# Altium footprint library PMP4435.PcbLib: 16 footprints
Each footprint in its own frame and in the unit in brackets; x right, y up, seen from the top. Pads: shape width x height; smd on the part's side, far side on the other; paste and mask are expansions set on the pad; w line width, h text height; cw(c..) or ccw(c..) is an arc to the next point about the centre after c.
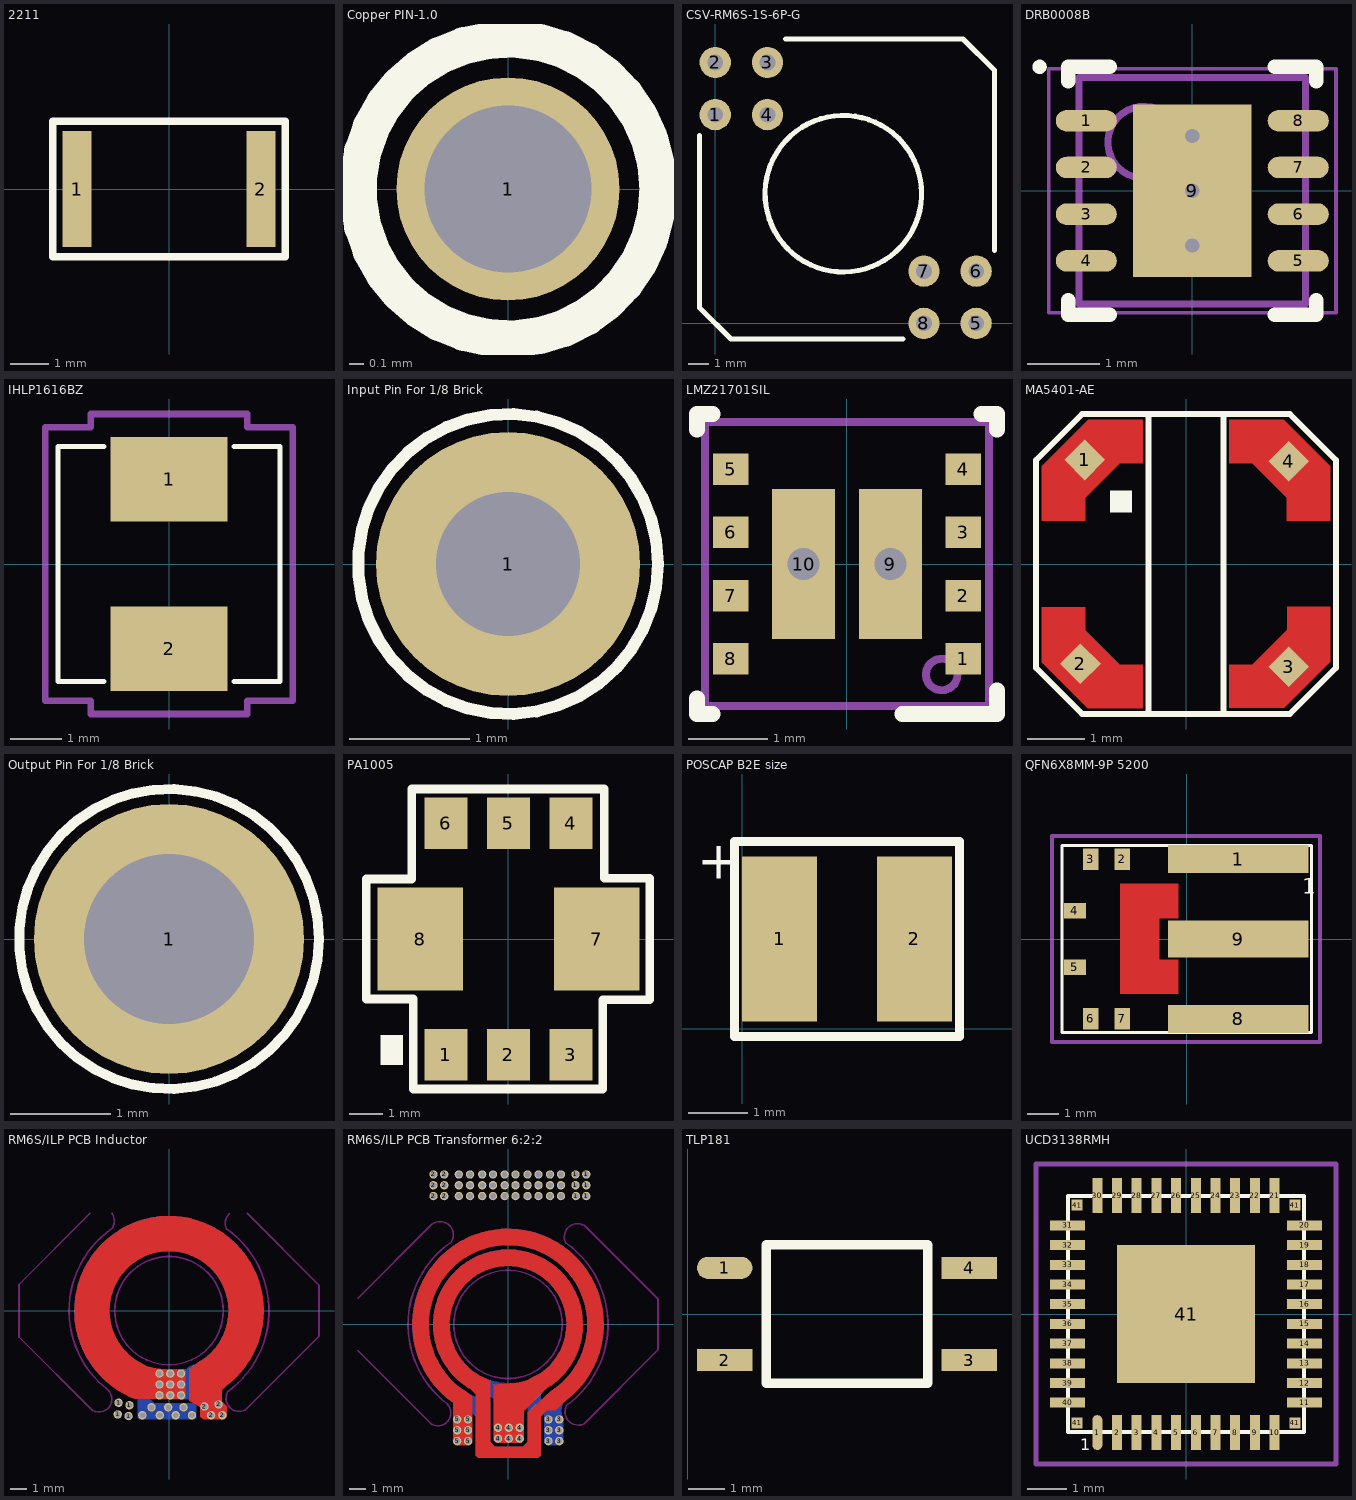
[diagram p0: the footprints below, top view; thin cyan lines are the x and y axes]

## 2211 [mil] "2211size : UL1414 Class X1/Y2 recognized type"
height 60
pads (2):
  rect 30x120 smd: 1(-95,0) 2(95,0)
Top Overlay:
  lines w7.87: -120,-70 120,-70 120,70 -120,70 -120,17.8 -120,-70

## Copper PIN-1.0 [mil] "Copper PINs for input and output"
height 570
pads (1):
  round 60 hole 45: 1(0,0)
Top Overlay:
  circle w10: c0,0 r40.31

## CSV-RM6S-1S-6P-G [mil] "RM6S Flyback Transformer"
height 490
pads (8):
  round 60 hole 30: 1(0,400) 2(0,500) 3(100,500) 4(100,400) 5(500,0) 6(500,100) 7(400,100) 8(400,0)
Top Overlay:
  lines w10: -30,360 -30,30 30,-30 360,-30 ; 135,545 475,545 535,485 535,140 ; 395,260 ccw(c245.44,248.49) 395.23,256.38

## DRB0008B [mm] "SON, 8-Leads, Body 3x3mm, Pitch 0.65mm, Thermal Pad 2.4x1.65mm, TI Recommended"
height 1
pads (9):
  oval 0.85x0.3 smd paste-0.025 mask+0.07: 1(-1.475,0.975) 2(-1.475,0.325) 3(-1.475,-0.325) 4(-1.475,-0.975) 5(1.475,-0.975) 6(1.475,-0.325) 7(1.475,0.325) 8(1.475,0.975)
  rect 1.65x2.4 smd paste-0.825 mask+0.07: 9(0,0)
via 0,0 diameter 0.5 hole 0.2
via 0,0.762 diameter 0.5 hole 0.2
via 0,-0.762 diameter 0.5 hole 0.2
Top Overlay:
  circle w0.1: c-2.125,1.725 r0.05
  lines w0.2: -1.725,-1.525 -1.725,-1.725 -1.15,-1.725 ; -1.725,1.525 -1.725,1.725 -1.15,1.725 ; 1.15,-1.725 1.725,-1.725 1.725,-1.525 ; 1.15,1.725 1.725,1.725 1.725,1.525
Top Paste:
  rectangle: -0.775,0.125 -0.125,1.125
  region: 0.775,1.125 0.125,1.125 0.125,0.125 0.775,0.125
  region: 0.775,-0.125 0.125,-0.125 0.125,-1.125 0.775,-1.125
  rectangle: -0.775,-1.125 -0.125,-0.125
Mechanical 5:
  circle w0.1: c-0.675,0.675 r0.5
  lines w0.1: -1.575,-1.575 -1.575,1.575 1.575,1.575 1.575,-1.575 -1.575,-1.575
  text ".Designator" at -1.397,-0.889 h0.76
Mechanical 15:
  lines w0.05: -2,-1.7 -2,1.7 2,1.7 2,-1.7 -2,-1.7
  lines w0.1: -0.5,0 0.5,0 ; 0,-0.5 0,0.5
3D body: height 1, standoff 0, extent -1.575,-1.575 1.575,1.575

## IHLP1616BZ [mil] "IHLP1616BZERR10M01, 100nH, 5mOHM, 35A"
height 78.74
pads (2):
  rect 90x65 smd: 1(0,65) 2(0,-65)
Top Overlay:
  lines w4: -50,-90 -85,-90 -85,90 -50,90 ; 50,-90 85,-90 85,90 50,90
Mechanical 5:
  lines w5: -95,-105 -60,-105 -60,-115 60,-115 60,-105 95,-105 95,105 60,105 60,115 -60,115 -60,105 -95,105 -95,-105
  text ".Designator" at -20,73 h40

## Input Pin For 1/8 Brick [mm] "Input Pin For 1/8 Brick, D1.0mm*D2.0mm*L11.6mm"
height 11.6
pads (1):
  round 2.2 hole 1.2: 1(0,0)
Top Overlay:
  circle w0.1: c0,0 r1.25

## LMZ21701SIL [mm]
height 1.016
pads (10):
  rect 0.45x0.4 smd mask+0.07: 1(1.475,-1.2) 2(1.475,-0.4) 3(1.475,0.4) 4(1.475,1.2) 5(-1.475,1.2) 6(-1.475,0.4) 7(-1.475,-0.4) 8(-1.475,-1.2)
  rect 0.8x1.9 smd paste-0.5 mask+0.07: 9(0.55,0) 10(-0.55,0)
via 0.55,0 diameter 0.457 hole 0.406
via -0.55,0 diameter 0.457 hole 0.406
Top Overlay:
  lines w0.2: -1.9,-1.7 -1.9,-1.9 -1.7,-1.9 ; -1.9,1.7 -1.9,1.9 -1.7,1.9 ; 0.7,-1.9 1.9,-1.9 1.9,-1.6 ; 1.7,1.9 1.9,1.9 1.9,1.7
Top Paste:
  region: 0.93,0.95 0.17,0.95 0.17,0.1 0.93,0.1
  region: -0.17,-0.1 -0.93,-0.1 -0.93,-0.95 -0.17,-0.95
  region: -0.17,0.95 -0.93,0.95 -0.93,0.1 -0.17,0.1
  region: 0.925,-0.1 0.165,-0.1 0.165,-0.95 0.925,-0.95
Mechanical 5:
  circle w0.1: c1.2,-1.4 r0.2
  lines w0.1: -1.8,-1.8 1.8,-1.8 1.8,1.8 -1.8,1.8 -1.8,-1.8
  text ".Designator" at 1.4,0.4 h0.51
3D body: height 0.47, standoff 0.2, extent 0.997,-1.603 1.403,-1.197
3D body: height 1.66, standoff 0, extent -1.75,-1.75 1.75,1.75

## MA5401-AE [mil] "SMT Flyback / Buck Transformer"
height 118.11
pads (4):
  rect 19.68x19.68 smd rot 45: 1(-69,71) 2(-72,-68) 3(70,-70) 4(70,70)
Top Layer:
  region: -29.53,-68.9 -29.53,-98.43 -66.93,-98.43 -98.43,-66.93 -98.43,-29.53 -68.9,-29.53 -68.9,-45.28 -45.28,-68.9
  region: 69,-29.25 98.53,-29.25 98.53,-66.65 67.03,-98.15 29.63,-98.15 29.63,-68.62 45.38,-68.62 69,-45
  region: 29.44,68.81 29.44,98.34 66.84,98.34 98.34,66.84 98.34,29.44 68.81,29.44 68.81,45.19 45.19,68.81
  region: -68.81,29.44 -98.34,29.44 -98.34,66.84 -66.84,98.34 -29.44,98.34 -29.44,68.81 -45.19,68.81 -68.81,45.19
Top Overlay:
  rectangle: -52,35 -37,50
  lines w3.94: -25.59,-102.36 -25.59,102.36 ; 25.59,-102.36 25.59,102.36
  lines w4: -102.36,-70.87 -70.87,-102.36 70.87,-102.36 102.36,-70.87 102.36,70.87 70.87,102.36 -70.87,102.36 -102.36,70.87 -102.36,-70.87

## Output Pin For 1/8 Brick [mm] "Output Pin For 1/8 Brick, D1.5mm*D2.5mm*L11.6mm"
height 11.6
pads (1):
  round 2.7 hole 1.7: 1(0,0)
Top Overlay:
  circle w0.1: c0,0 r1.5

## PA1005 [mil] "SMT Current Sense Transformers, PA1005 Series, www.pulseelectronics.com"
height 220
pads (8):
  rect 50x60 smd: 1(-73,-135) 2(0,-135) 3(73,-135) 4(73,135) 5(0,135) 6(-73,135)
  rect 100x120 smd: 7(103,0) 8(-103,0)
Top Overlay:
  rectangle: -149,-147 -123,-112
  lines w10: -166,-70 -166,70 -113,70 -113,175 112,175 112,71 165,71 165,-71 110,-71 110,-175 -111,-175 -111,-70 -166,-70

## POSCAP B2E size [mil] "B2E size (3.5 x 2.8 x 1.9mm)"
height 80
pads (2):
  rect 50x110 smd: 1(25,60) 2(115,60)
Top Overlay:
  lines w6: -5,-5 145,-5 145,125 -5,125 -5,-5
  text "+" at -30,100 h25

## QFN6X8MM-9P 5200 [mm] "LM5200 QFN6*8mm PCB Package"
height 2.54
pads (9):
  rect 4.5x0.9 smd mask+0.03: 1(1.65,2.56) 8(1.65,-2.56)
  rect 0.5x0.7 smd mask+0.03: 2(-2.075,2.56) 3(-3.075,2.56) 6(-3.075,-2.56) 7(-2.075,-2.56)
  rect 0.7x0.5 smd mask+0.03: 4(-3.585,0.9) 5(-3.585,-0.9)
  rect 4.5x1.2 smd mask+0.03: 9(1.65,0)
Top Layer:
  pour cut-out: -2.133,1.778 -2.133,-1.753 -0.279,-1.753 -0.279,-0.66 -0.889,-0.66 -0.889,0.66 -0.279,0.66 -0.279,1.778
Top Overlay:
  lines w0.102: -4,-3 -4,3 4,3 4,-3 -4,-3
  text "1" at 3.708,1.448 h0.51
Mechanical 5:
  lines w0.127: -4.325,-3.3 -4.325,3.3 4.275,3.3 4.275,-3.3 -4.325,-3.3
  text ".Designator" at -1.879,-0.508 h1.02
  text "*" at 3.023,2.159 h0.76

## RM6S/ILP PCB Inductor [mil] "RM6S/ILP PCB Planar Inductor, 3 Turns"
height 100
pads (24):
  round 20 hole 14 paste+0 mask+0: 1(-123,-249) 1(-121,-221) 1(-97,-253) 1(-95,-227) 2(85,-230) 2(101,-251) 2(119,-225) 2(128,-251) ""(-64,-251) ""(-42,-232) ""(-23,-203) ""(-23,-177) ""(-23,-151) ""(-22,-251) ""(-2,-232) ""(3,-203) ""(3,-177) ""(3,-151) ""(16,-251) ""(29,-203) ""(29,-177) ""(29,-151) ""(35,-232) ""(55,-251)
Top Layer:
  region: -53,-133 -32,-138 -9,-141 34.64,-141.64 39,-146 39,-208 34,-213 -80,-211 -89,-204 -89,-176
  region: 72.14,-122.78 49,-140.78 49,-215.85 75,-231.85 75,-254 82,-261 133,-261 139,-255 139,-229 127,-217 127,-191 134,-184 134,-145 125,-136
  lines w85: -75.5,-168.89 cw(c0,0) 94.45,-159.07
Mid-Layer 1:
  region: -27,-140 -33,-146 -33,-202 -22,-213 66,-213 78,-201 78,-172 46,-140
  region: -75.34,-121.3 -45,-140.72 -45,-212 -35,-222 59,-222 65,-228 65,-258 62,-261 -72,-261 -75,-258 -75,-213.11 -97,-205 -116.06,-194.99 -117,-162
  lines w85: -92.5,-160.21 cw(c0,0) 70.59,-171
Mid-Layer 2:
  region: -65,-128 -42,-151 -42,-202 -45,-205 -71,-205 -83,-217 -83,-259 -87,-263 -132,-263 -136,-259 -136,-231 -131,-226 -131,-187 -135,-183 -135,-168 -95,-128
  region: 72,-123 48,-147 48,-210 36,-222 -71,-222 -74,-225 -74,-256 -69,-261 60,-261 67,-254 67,-218.19 135.52,-179.65 142,-174 142,-154 111,-123
  lines w85: -92.5,-160.21 cw(c0,0) 92.5,-160.21
Mid-Layer 3:
  region: 72.14,-122.78 49,-140.78 49,-215.85 75,-231.85 75,-254 82,-261 133,-261 139,-255 139,-229 127,-217 127,-191 134,-184 134,-145 125,-136
  region: -53,-133 -32,-138 -9,-141 34.64,-141.64 39,-146 39,-208 34,-213 -80,-211 -89,-204 -89,-176
  lines w85: -75.5,-168.89 cw(c0,0) 94.45,-159.07
Mid-Layer 4:
  region: -75.34,-121.3 -45,-140.72 -45,-212 -35,-222 59,-222 65,-228 65,-258 62,-261 -72,-261 -75,-258 -75,-213.11 -97,-205 -116.06,-194.99 -117,-162
  region: -27,-140 -33,-146 -33,-202 -22,-213 66,-213 78,-201 78,-172 46,-140
  lines w85: -92.5,-160.21 cw(c0,0) 70.59,-171
Mid-Layer 5:
  region: 72,-123 48,-147 48,-210 36,-222 -71,-222 -74,-225 -74,-256 -69,-261 60,-261 67,-254 67,-218.19 135.52,-179.65 142,-174 142,-154 111,-123
  region: -65,-128 -42,-151 -42,-202 -45,-205 -71,-205 -83,-217 -83,-259 -87,-263 -132,-263 -136,-259 -136,-231 -131,-226 -131,-187 -135,-183 -135,-168 -95,-128
  lines w85: -92.5,-160.21 cw(c0,0) 92.5,-160.21
Mid-Layer 6:
  region: 72.14,-122.78 49,-140.78 49,-215.85 75,-231.85 75,-254 82,-261 133,-261 139,-255 139,-229 127,-217 127,-191 134,-184 134,-145 125,-136
  region: -53,-133 -32,-138 -9,-141 34.64,-141.64 39,-146 39,-208 34,-213 -80,-211 -89,-204 -89,-176
  lines w85: -75.5,-168.89 cw(c0,0) 94.45,-159.07
Mid-Layer 7:
  region: -75.34,-121.3 -45,-140.72 -45,-212 -35,-222 59,-222 65,-228 65,-258 62,-261 -72,-261 -75,-258 -75,-213.11 -97,-205 -116.06,-194.99 -117,-162
  region: -27,-140 -33,-146 -33,-202 -22,-213 66,-213 78,-201 78,-172 46,-140
  lines w85: -92.5,-160.21 cw(c0,0) 70.59,-171
Mid-Layer 8:
  region: 72,-123 48,-147 48,-210 36,-222 -71,-222 -74,-225 -74,-256 -69,-261 60,-261 67,-254 67,-218.19 135.52,-179.65 142,-174 142,-154 111,-123
  region: -65,-128 -42,-151 -42,-202 -45,-205 -71,-205 -83,-217 -83,-259 -87,-263 -132,-263 -136,-259 -136,-231 -131,-226 -131,-187 -135,-183 -135,-168 -95,-128
  lines w85: -92.5,-160.21 cw(c0,0) 92.5,-160.21
Mid-Layer 9:
  region: -53,-133 -32,-138 -9,-141 34.64,-141.64 39,-146 39,-208 34,-213 -80,-211 -89,-204 -89,-176
  region: 72.14,-122.78 49,-140.78 49,-215.85 75,-231.85 75,-254 82,-261 133,-261 139,-255 139,-229 127,-217 127,-191 134,-184 134,-145 125,-136
  lines w85: -75.5,-168.89 cw(c0,0) 94.45,-159.07
Mid-Layer 10:
  region: -27,-140 -33,-146 -33,-202 -22,-213 66,-213 78,-201 78,-172 46,-140
  region: -75.34,-121.3 -45,-140.72 -45,-212 -35,-222 59,-222 65,-228 65,-258 62,-261 -72,-261 -75,-258 -75,-213.11 -97,-205 -116.06,-194.99 -117,-162
  lines w85: -92.5,-160.21 cw(c0,0) 70.59,-171
Mid-Layer 11:
  region: 72,-123 48,-147 48,-210 36,-222 -71,-222 -74,-225 -74,-256 -69,-261 60,-261 67,-254 67,-218.19 135.52,-179.65 142,-174 142,-154 111,-123
  region: -65,-128 -42,-151 -42,-202 -45,-205 -71,-205 -83,-217 -83,-259 -87,-263 -132,-263 -136,-259 -136,-231 -131,-226 -131,-187 -135,-183 -135,-168 -95,-128
  lines w85: -92.5,-160.21 cw(c0,0) 92.5,-160.21
Mid-Layer 12:
  region: 72.14,-122.78 49,-140.78 49,-215.85 75,-231.85 75,-254 82,-261 133,-261 139,-255 139,-229 127,-217 127,-191 134,-184 134,-145 125,-136
  region: -53,-133 -32,-138 -9,-141 34.64,-141.64 39,-146 39,-208 34,-213 -80,-211 -89,-204 -89,-176
  lines w85: -75.5,-168.89 cw(c0,0) 94.45,-159.07
Mid-Layer 13:
  region: -27,-140 -33,-146 -33,-202 -22,-213 66,-213 78,-201 78,-172 46,-140
  region: -75.34,-121.3 -45,-140.72 -45,-212 -35,-222 59,-222 65,-228 65,-258 62,-261 -72,-261 -75,-258 -75,-213.11 -97,-205 -116.06,-194.99 -117,-162
  lines w85: -92.5,-160.21 cw(c0,0) 70.59,-171
Mid-Layer 14:
  region: 72,-123 48,-147 48,-210 36,-222 -71,-222 -74,-225 -74,-256 -69,-261 60,-261 67,-254 67,-218.19 135.52,-179.65 142,-174 142,-154 111,-123
  region: -65,-128 -42,-151 -42,-202 -45,-205 -71,-205 -83,-217 -83,-259 -87,-263 -132,-263 -136,-259 -136,-231 -131,-226 -131,-187 -135,-183 -135,-168 -95,-128
  lines w85: -92.5,-160.21 cw(c0,0) 92.5,-160.21
Mid-Layer 15:
  region: 72.14,-122.78 49,-140.78 49,-215.85 75,-231.85 75,-254 82,-261 133,-261 139,-255 139,-229 127,-217 127,-191 134,-184 134,-145 125,-136
  region: -53,-133 -32,-138 -9,-141 34.64,-141.64 39,-146 39,-208 34,-213 -80,-211 -89,-204 -89,-176
  lines w85: -75.5,-168.89 cw(c0,0) 94.45,-159.07
Mid-Layer 16:
  region: -27,-140 -33,-146 -33,-202 -22,-213 66,-213 78,-201 78,-172 46,-140
  region: -75.34,-121.3 -45,-140.72 -45,-212 -35,-222 59,-222 65,-228 65,-258 62,-261 -72,-261 -75,-258 -75,-213.11 -97,-205 -116.06,-194.99 -117,-162
  lines w85: -92.5,-160.21 cw(c0,0) 70.59,-171
Mid-Layer 17:
  region: 72,-123 48,-147 48,-210 36,-222 -71,-222 -74,-225 -74,-256 -69,-261 60,-261 67,-254 67,-218.19 135.52,-179.65 142,-174 142,-154 111,-123
  region: -65,-128 -42,-151 -42,-202 -45,-205 -71,-205 -83,-217 -83,-259 -87,-263 -132,-263 -136,-259 -136,-231 -131,-226 -131,-187 -135,-183 -135,-168 -95,-128
  lines w85: -92.5,-160.21 cw(c0,0) 92.5,-160.21
Mid-Layer 18:
  region: 72.14,-122.78 49,-140.78 49,-215.85 75,-231.85 75,-254 82,-261 133,-261 139,-255 139,-229 127,-217 127,-191 134,-184 134,-145 125,-136
  region: -53,-133 -32,-138 -9,-141 34.64,-141.64 39,-146 39,-208 34,-213 -80,-211 -89,-204 -89,-176
  lines w85: -75.5,-168.89 cw(c0,0) 94.45,-159.07
Bottom Layer:
  region: -27,-140 -33,-146 -33,-202 -22,-213 66,-213 78,-201 78,-172 46,-140
  region: -75.34,-121.3 -45,-140.72 -45,-212 -35,-222 59,-222 65,-228 65,-258 62,-261 -72,-261 -75,-258 -75,-213.11 -97,-205 -116.06,-194.99 -117,-162
  lines w85: -92.5,-160.21 cw(c0,0) 70.59,-171
Keep-Out Layer:
  circle w4: c0,0 r130
  lines w4: -360,-63 -182.8,-240.2 ; -360,-61 -360,61 -360,63 -189.5,233.5 ; -182.26,-239.82 ccw(c-168.02,-212.43) -145.42,-191.39 ; -145.2,-191.1 cw(c0,0) -136.44,197.45 ; -136.89,233.49 cw(c-163.04,215.03) -136.04,197.85 ; 138.17,196.18 cw(c167.11,209.83) 145.02,232.98 ; 138.22,196.2 cw(c0,0) 139.5,-195.3 ; 140,-196 ccw(c168.87,-209.79) 183.11,-238.45 ; 182.8,-238.2 360,-61 360,61 ; 187.5,233.5 359.2,61.8

## RM6S/ILP PCB Transformer 6:2:2 [mil] "RM6S/ILP PCB Planar Full Bridge Transformer, 6:2:2"
height 100
pads (60):
  round 20 hole 14 paste+0 mask+0: 1(162,334) 1(162,360) 1(163,308) 1(188,308) 1(188,334) 1(188,360) 2(-179,308) 2(-179,334) 2(-179,360) 2(-153,308) 2(-153,334) 2(-153,360) 3(97,-280) 3(97,-254) 3(97,-228) 3(123,-280) 3(123,-254) 3(123,-228) 4(-24,-274) 4(-24,-248) 4(2,-274) 4(2,-248) 4(28,-274) 4(28,-248) 5(-122,-280) 5(-122,-254) 5(-122,-228) 5(-96,-280) 5(-96,-254) 5(-96,-228) ""(-118,308) ""(-118,334) ""(-118,360) ""(-91,308) ""(-91,334) ""(-91,360) ""(-62,308) ""(-62,334) ""(-62,360) ""(-36,308) ""(-36,334) ""(-36,360) ""(-8,308) ""(-8,334) ""(-8,360) ""(18,308) ""(18,334) ""(18,360) ""(47,308) ""(47,334) ""(47,360) ""(73,308) ""(73,334) ""(73,360) ""(101,308) ""(101,334) ""(101,360) ""(127,308) ""(127,334) ""(127,360)
Top Layer:
  region: -110.98,-154.16 -132,-171.5 -132,-284 -126,-290 -92,-290 -86,-284 -86,-172
  region: -76,-121 -72,-125 -62,-126 -43,-135 -43,-282 -32,-293 35,-293 47,-281 47,-211.25 103,-160 121,-155 135,-169 135,-186 115,-206 93,-206 78,-221 78,-314 72,-320 -72,-320 -77,-315 -77,-168 -91,-154 -91,-133 -85,-127
  region: 61,-126 60,-126 48,-133 32.71,-138.1 7,-142 -25.86,-143.86 -34,-145 -34,-278 -28,-284 32,-284 38,-278 38,-208 91,-155 91,-139
  lines w40: -109.04,-179.47 cw(c0,0) 116.03,-175.04 ; -74.64,-141.52 cw(c0,0) 71.55,-143.11
Mid-Layer 1:
  region: 94,106 81,119 78,119 68,129 68,220.52 150,303.22 150,367.75 153.6,370 197,370 200,367 200,279 170,249 147,249 129,231 129,192 141,180 141,137
  region: -9,142 10,142 12,140 57,140 59,142 59,224 137,302 137,364 131,370 96,370 91,365 91,294.89 71,286 -18.13,228.87 -19,228 -32,228 -42,218 -42,182 -39,179
  lines w88: 14.04,184.47 ccw(c0,0) 114.47,145.33
Mid-Layer 2:
  region: 103.3,-159.7 87,-176 87,-284 93,-290 127,-290 133,-284 133,-227 130,-220 128,-210 129,-198 133,-187.29
  region: -93,-205 -77,-221 -77,-315 -72,-320 73,-320 78,-315 78,-168 93,-153 67,-127 60,-127 47,-140 47,-283 37,-293 -32,-293 -43,-282 -43,-186 -48,-183 -61,-180 -69.96,-181
  region: -55,-159 -34,-180 -34,-278 -28,-284 32,-284 38,-278 38,-148 35.21,-142.41 -31.29,-139.09
  lines w40: -68.8,-198.41 cw(c0,0) 116.03,-175.04 ; -18.11,-158.97 cw(c0,0) 71.55,-143.11
Mid-Layer 3:
  region: 61,-126 60,-126 48,-133 32.71,-138.1 7,-142 -25.86,-143.86 -34,-145 -34,-278 -28,-284 32,-284 38,-278 38,-208 91,-155 91,-139
  region: -110.98,-154.16 -132,-171.5 -132,-284 -126,-290 -92,-290 -86,-284 -86,-172
  region: -76,-121 -72,-125 -62,-126 -43,-135 -43,-282 -32,-293 35,-293 47,-281 47,-211.25 103,-160 121,-155 135,-169 135,-186 115,-206 93,-206 78,-221 78,-314 72,-320 -72,-320 -77,-315 -77,-168 -91,-154 -91,-133 -85,-127
  lines w40: -109.04,-179.47 cw(c0,0) 116.03,-175.04 ; -74.64,-141.52 cw(c0,0) 71.55,-143.11
Mid-Layer 4:
  region: 96,370 131,370 138,363 138,240 129,231 129,191 134,186 134,126 70,126 60,136 60,193 91,224 91,365
  region: 37,364 43,370 78,370 83,365 83,229 49,195 49,147 42,140 7,140 -17,164 -17,220 37,274
  lines w88: 4,184.96 ccw(c0,0) 107.44,150.61
Mid-Layer 5:
  region: 61,-126 60,-126 48,-133 32.71,-138.1 7,-142 -25.86,-143.86 -34,-145 -34,-278 -28,-284 32,-284 38,-278 38,-208 91,-155 91,-139
  region: -110.98,-154.16 -132,-171.5 -132,-284 -126,-290 -92,-290 -86,-284 -86,-172
  region: -76,-121 -72,-125 -62,-126 -43,-135 -43,-282 -32,-293 35,-293 47,-281 47,-211.25 103,-160 121,-155 135,-169 135,-186 115,-206 93,-206 78,-221 78,-314 72,-320 -72,-320 -77,-315 -77,-168 -91,-154 -91,-133 -85,-127
  lines w40: -109.04,-179.47 cw(c0,0) 116.03,-175.04 ; -74.64,-141.52 cw(c0,0) 71.55,-143.11
Mid-Layer 6:
  region: 103.3,-159.7 87,-176 87,-284 93,-290 127,-290 133,-284 133,-227 130,-220 128,-210 129,-198 133,-187.29
  region: -93,-205 -77,-221 -77,-315 -72,-320 73,-320 78,-315 78,-168 93,-153 67,-127 60,-127 47,-140 47,-283 37,-293 -32,-293 -43,-282 -43,-186 -48,-183 -61,-180 -69.96,-181
  region: -55,-159 -34,-180 -34,-278 -28,-284 32,-284 38,-278 38,-148 35.21,-142.41 -31.29,-139.09
  lines w40: -68.8,-198.41 cw(c0,0) 116.03,-175.04 ; -18.11,-158.97 cw(c0,0) 71.55,-143.11
Mid-Layer 7:
  region: 37,364 43,370 78,370 83,365 83,233 131,185 80,134 47,134 33,148 33,204 37,208
  region: -18,364 -12,370 22,370 28,364 28,210 24,206 24,147 16,139 -17,139 -50,172 -50,183 -57,190 -57,218 -18,257
  lines w88: -23.95,182.57 ccw(c-1,-1) 78.54,166.03
Mid-Layer 8:
  region: 61,-126 60,-126 48,-133 32.71,-138.1 7,-142 -25.86,-143.86 -34,-145 -34,-278 -28,-284 32,-284 38,-278 38,-208 91,-155 91,-139
  region: -76,-121 -72,-125 -62,-126 -43,-135 -43,-282 -32,-293 35,-293 47,-281 47,-211.25 103,-160 121,-155 135,-169 135,-186 115,-206 93,-206 78,-221 78,-314 72,-320 -72,-320 -77,-315 -77,-168 -91,-154 -91,-133 -85,-127
  region: -110.98,-154.16 -132,-171.5 -132,-284 -126,-290 -92,-290 -86,-284 -86,-172
  lines w40: -109.04,-179.47 cw(c0,0) 116.03,-175.04 ; -74.64,-141.52 cw(c0,0) 71.55,-143.11
Mid-Layer 9:
  region: 103.3,-159.7 87,-176 87,-284 93,-290 127,-290 133,-284 133,-227 130,-220 128,-210 129,-198 133,-187.29
  region: -93,-205 -77,-221 -77,-315 -72,-320 73,-320 78,-315 78,-168 93,-153 67,-127 60,-127 47,-140 47,-283 37,-293 -32,-293 -43,-282 -43,-186 -48,-183 -61,-180 -69.96,-181
  region: -55,-159 -34,-180 -34,-278 -28,-284 32,-284 38,-278 38,-148 35.21,-142.41 -31.29,-139.09
  lines w40: -68.8,-198.41 cw(c0,0) 116.03,-175.04 ; -18.11,-158.97 cw(c0,0) 71.55,-143.11
Mid-Layer 10:
  region: 61,-126 60,-126 48,-133 32.71,-138.1 7,-142 -25.86,-143.86 -34,-145 -34,-278 -28,-284 32,-284 38,-278 38,-208 91,-155 91,-139
  region: -76,-121 -72,-125 -62,-126 -43,-135 -43,-282 -32,-293 35,-293 47,-281 47,-211.25 103,-160 121,-155 135,-169 135,-186 115,-206 93,-206 78,-221 78,-314 72,-320 -72,-320 -77,-315 -77,-168 -91,-154 -91,-133 -85,-127
  region: -110.98,-154.16 -132,-171.5 -132,-284 -126,-290 -92,-290 -86,-284 -86,-172
  lines w40: -109.04,-179.47 cw(c0,0) 116.03,-175.04 ; -74.64,-141.52 cw(c0,0) 71.55,-143.11
Mid-Layer 11:
  region: -12,370 22,370 28,364 28,283 113.5,197.5 51,135 7,135 0,142 0,241 -18,259 -18,364.29
  region: -32,370 -26,364 -26,256 -7,237 -7,143 -17,135 -67.4,131.4 -113.5,177.5 -72,219 -72,364 -66,370
  lines w88: -53.98,176.95 ccw(c0,0) 50.03,178.11
Mid-Layer 12:
  region: -55,-159 -34,-180 -34,-278 -28,-284 32,-284 38,-278 38,-148 35.21,-142.41 -31.29,-139.09
  region: -93,-205 -77,-221 -77,-315 -72,-320 73,-320 78,-315 78,-168 93,-153 67,-127 60,-127 47,-140 47,-283 37,-293 -32,-293 -43,-282 -43,-186 -48,-183 -61,-180 -69.96,-181
  region: 103.3,-159.7 87,-176 87,-284 93,-290 127,-290 133,-284 133,-227 130,-220 128,-210 129,-198 133,-187.29
  lines w40: -68.8,-198.41 cw(c0,0) 116.03,-175.04 ; -18.11,-158.97 cw(c0,0) 71.55,-143.11
Mid-Layer 13:
  region: 61,-126 60,-126 48,-133 32.71,-138.1 7,-142 -25.86,-143.86 -34,-145 -34,-278 -28,-284 32,-284 38,-278 38,-208 91,-155 91,-139
  region: -76,-121 -72,-125 -62,-126 -43,-135 -43,-282 -32,-293 35,-293 47,-281 47,-211.25 103,-160 121,-155 135,-169 135,-186 115,-206 93,-206 78,-221 78,-314 72,-320 -72,-320 -77,-315 -77,-168 -91,-154 -91,-133 -85,-127
  region: -110.98,-154.16 -132,-171.5 -132,-284 -126,-290 -92,-290 -86,-284 -86,-172
  lines w40: -109.04,-179.47 cw(c0,0) 116.03,-175.04 ; -74.64,-141.52 cw(c0,0) 71.55,-143.11
Mid-Layer 14:
  region: 103.3,-159.7 87,-176 87,-284 93,-290 127,-290 133,-284 133,-227 130,-220 128,-210 129,-198 133,-187.29
  region: -93,-205 -77,-221 -77,-315 -72,-320 73,-320 78,-315 78,-168 93,-153 67,-127 60,-127 47,-140 47,-283 37,-293 -32,-293 -43,-282 -43,-186 -48,-183 -61,-180 -69.96,-181
  region: -55,-159 -34,-180 -34,-278 -28,-284 32,-284 38,-278 38,-148 35.21,-142.41 -31.29,-139.09
  lines w40: -68.8,-198.41 cw(c0,0) 116.03,-175.04 ; -18.11,-158.97 cw(c0,0) 71.55,-143.11
Mid-Layer 15:
  region: -72,364 -66,370 -32,370 -26,364 -26,275 47,202 -14,141 -41,141 -53,153 -53,193 -72,212
  region: -128,365 -123,370 -87,370 -81,364 -81,208 -62,189 -62,133 -81,114 -131,164 -131,189 -125,195 -125,238 -128,241
  lines w88: -108.1,150.13 ccw(c0,0) -5,184.93
Mid-Layer 16:
  region: 61,-126 60,-126 48,-133 32.71,-138.1 7,-142 -25.86,-143.86 -34,-145 -34,-278 -28,-284 32,-284 38,-278 38,-208 91,-155 91,-139
  region: -76,-121 -72,-125 -62,-126 -43,-135 -43,-282 -32,-293 35,-293 47,-281 47,-211.25 103,-160 121,-155 135,-169 135,-186 115,-206 93,-206 78,-221 78,-314 72,-320 -72,-320 -77,-315 -77,-168 -91,-154 -91,-133 -85,-127
  region: -110.98,-154.16 -132,-171.5 -132,-284 -126,-290 -92,-290 -86,-284 -86,-172
  lines w40: -109.04,-179.47 cw(c0,0) 116.03,-175.04 ; -74.64,-141.52 cw(c0,0) 71.55,-143.11
Mid-Layer 17:
  region: 103.3,-159.7 87,-176 87,-284 93,-290 127,-290 133,-284 133,-227 130,-220 128,-210 129,-198 133,-187.29
  region: -93,-205 -77,-221 -77,-315 -72,-320 73,-320 78,-315 78,-168 93,-153 67,-127 60,-127 47,-140 47,-283 37,-293 -32,-293 -43,-282 -43,-186 -48,-183 -61,-180 -69.96,-181
  region: -55,-159 -34,-180 -34,-278 -28,-284 32,-284 38,-278 38,-148 35.21,-142.41 -31.29,-139.09
  lines w40: -68.8,-198.41 cw(c0,0) 116.03,-175.04 ; -18.11,-158.97 cw(c0,0) 71.55,-143.11
Mid-Layer 18:
  region: -128,302.96 -128,364 -122,370 -87,370 -81,364 -81,298 -56,285 -31,280 14,228 15,228 15,191 8,184 8,147 1,147 -6,140 -7,141 -44,141 -54,151 -54,228 -56,230
  region: -195,365 -190,370 -145,370 -140,365 -140,301 -63,224 -63,133 -80,116 -125,161 -125,235 -145,255 -177,255 -195,273
  lines w88: -113.99,145.71 ccw(c0,0) -5,184.93
Bottom Layer:
  region: 103.3,-159.7 87,-176 87,-284 93,-290 127,-290 133,-284 133,-227 130,-220 128,-210 129,-198 133,-187.29
  region: -93,-205 -77,-221 -77,-315 -72,-320 73,-320 78,-315 78,-168 93,-153 67,-127 60,-127 47,-140 47,-283 37,-293 -32,-293 -43,-282 -43,-186 -48,-183 -61,-180 -69.96,-181
  region: -55,-159 -34,-180 -34,-278 -28,-284 32,-284 38,-278 38,-148 35.21,-142.41 -31.29,-139.09
  lines w40: -68.8,-198.41 cw(c0,0) 116.03,-175.04 ; -18.11,-158.97 cw(c0,0) 71.55,-143.11
Keep-Out Layer:
  circle w4: c0,0 r130
  lines w4: -360,-63 -182.8,-240.2 ; -360,63 -182.8,240.2 cw(c-163.04,215.03) -136.04,197.85 ; -182.26,-239.82 ccw(c-168.02,-212.43) -145.42,-191.39 ; -145.2,-191.1 cw(c0,0) -136.44,197.45 ; 138.17,196.18 cw(c167.11,209.83) 182.83,237.7 ; 138.22,196.2 cw(c0,0) 139.5,-195.3 ; 140,-196 ccw(c168.87,-209.79) 183.11,-238.45 ; 182.8,-238.2 360,-61 360,61 ; 183.07,237.93 359.2,61.8

## TLP181 [mil] "TOSHIBA Photocoupler GaAs Ired, Photo-Transistor"
height 106
pads (4):
  oval 60x24 smd: 1(40,50)
  rect 60x24 smd: 2(40,-50) 3(305,-50) 4(305,50)
Top Overlay:
  lines w10: 85,-75 260,-75 260,75 85,75 85,-75
  text "." at 105,45 h60

## UCD3138RMH [mil] "UCD3138RMH 40 QFN With Corner Anchors"
height 31.5
pads (45):
  oval 10x35 smd mask+2: 1(-88.7,-118.6)
  rect 10x35 smd mask+2: 2(-69,-118.6) 3(-49.3,-118.6) 4(-29.6,-118.6) 5(-9.9,-118.6) 6(9.8,-118.6) 7(29.5,-118.6) 8(49.2,-118.6) 9(68.9,-118.6) 10(88.6,-118.6) 21(88.6,118.4) 22(68.9,118.4) 23(49.2,118.4) 24(29.5,118.4) 25(9.8,118.4) 26(-9.9,118.4) 27(-29.6,118.4) 28(-49.3,118.4) 29(-69,118.4) 30(-88.7,118.4)
  rect 35x10 smd mask+2: 11(118.5,-88.7) 12(118.5,-69) 13(118.5,-49.3) 14(118.5,-29.6) 15(118.5,-9.9) 16(118.5,9.8) 17(118.5,29.5) 18(118.5,49.2) 19(118.5,68.9) 20(118.5,88.6) 31(-118.5,88.6) 32(-118.5,68.9) 33(-118.5,49.2) 34(-118.5,29.5) 35(-118.5,9.8) 36(-118.5,-9.9) 37(-118.5,-29.6) 38(-118.5,-49.3) 39(-118.5,-69) 40(-118.5,-88.7)
  rect 11.02x11.02 smd mask+2: 41(-108.78,-108.78) 41(-108.78,108.78) 41(108.78,-108.78) 41(108.78,108.78)
  rect 137.8x137.8 smd: 41(0,0)
Top Overlay:
  lines w4: -118.11,-118.11 -118.11,118.11 118.11,118.11 118.11,-118.11 -118.11,-118.11
  text "1" at -106,-136 h11.81
Mechanical 5:
  lines w5: -150,-150 -150,150 150,150 150,-150 -150,-150
  text "*" at -144.4,-143.9 h30
  text ".Designator" at -73,-20 h40